# EAGLE library part 2081-1126 (library con-wago_2081)
Serie 2081, Klemmenleiste mit Betätigungsdrückern mit geraden Lötstiften versetzt (alternierend) / Series 2081, Terminal strip with push-buttons with straight, staggered solder pins Polzahl / Pole No.: 6 Rastermaß / Pitch: 3.5 mm Bemessungsspannung / Rated Voltage: 320 V Nennstrom / Nominal Current: 17.5 A Leiterquerschnitt / Conductor Size: 0.2 - 1.5 mm2 Anschlusstechnik / Connection Technology: CAGE CLAMP® S Lötstiftlänge: / Solder Pin Length: 3.6 mm Leitereinführung (zur Platine) / Conductor entry angle (to PCB): 90 ° Farbe / Color: grau / gray Stand: 01.01.2014. Die jeweils aktuellen Daten zu diesem Artikel finden Sie in unserem Produktkatalog, den Sie unter www.wago.com einsehen können. As of: 01/01/2014. Please find the newest data for this article in our product catalogue, which can be viewed under www.wago.com.
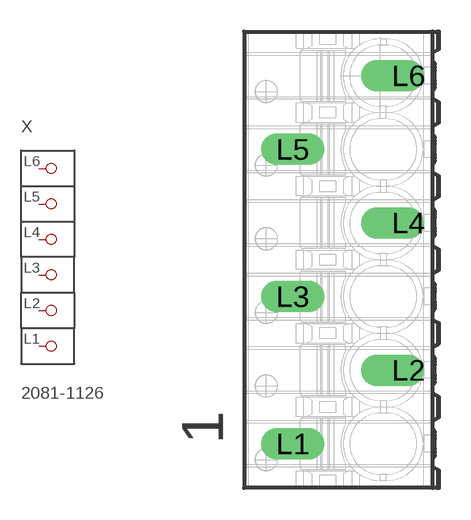
[diagram p6: symbol with the pads of P-2081-1126; footprint P-2081-1126]

Designator prefix X

## 2081-1126  [P-2081-1126]
L1  P1
L2  P2
L3  P3
L4  P4
L5  P5
L6  P6

## Footprint P-2081-1126 (pad centres in mm)
drill 1 long: L1 -2.325,-8.75; L3 -2.325,-1.75; L5 -2.325,5.25
drill 1 offset: L2 3.175,-5.25; L4 3.175,1.75; L6 3.175,8.75